# Altium integrated library CDRH2D14NP-2R2NC.Library.IntLib: 1 symbol
Pins are listed as number, name and electrical type; pins without a type are passive.

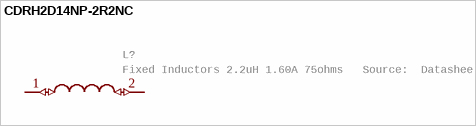
[diagram p0: symbol CDRH2D14NP-2R2NC]

## CDRH2D14NP-2R2NC
designator L?, comment Fixed Inductors 2.2uH 1.60A 75ohms   Source:  Datasheet
Manufacturer_Name: Sumida; GateName_1: G$1; SymbolName_1: CDRH2D14NP-2R2NC; LibraryName: CDRH2D14NP-2R2NC; DeviceSetName: CDRH2D14NP-2R2NC; Package: CDRH2D14; Manufacturer_Part_Number: CDRH2D14NP-2R2NC; Mouser_Part_Number: 851-CDRH2D14NP-2R2NC; Mouser_Price-Stock: https://www.mouser.co.uk/ProductDetail/Sumida/CDRH2D14NP-2R2NC?qs=yEEOfDmvQDXT35Jdz6aZxg%3D%3D; Arrow_Part_Number: CDRH2D14NP-2R2NC; Arrow_Price-Stock: null?region=nac; Description: Fixed Inductors 2.2uH 1.60A 75ohms; Height: mm
footprint CDRH2D14
pins: 1 (io), 2 (io)